# Altium integrated library TE Passive Components.IntLib: 6 symbols
Pins are listed as number, name and electrical type; pins without a type are passive.

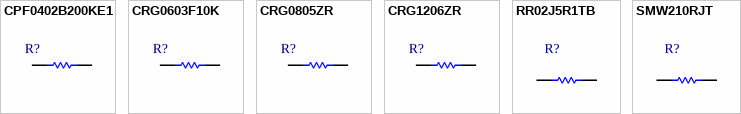
[diagram p0: symbols CPF0402B200KE1 to SMW210RJT]

## CPF0402B200KE1
designator R?
Chip Resistor, 200 KOhm, +/- 0.1%, 0.063 W, -55 to 155 degC, 0402 (1005 Metric), RoHS, Tape and Reel; Part # Aliases: 3-1879216-5; Power Rating: 63 mW; Temperature Coefficient: 25 PPM / C; Resistance: 200 kOhms; Unit Weight: 0.000023 oz; Brand: TE Connectivity / Neohm; Voltage Rating: 50 V; DatasheetVersion: Rev. BA; PackageReference: SMD; PackageDescription: 2-Pin Chip Resistor, Body 1 x 0.5 mm; Supplier 1: Newark; Supplier Part Number 1: 95W6171; Supplier 2: Newark; Supplier Part Number 2: 06AC1267; Supplier 3: Farnell; Supplier Part Number 3: 2330537; Supplier 4: Farnell; Supplier Part Number 4: 2615138; Supplier 5: Farnell; Supplier Part Number 5: 2330537RL; Supplier 6: Digi-Key; Supplier Part Number 6: A103795TR-ND; Supplier 7: Digi-Key; Supplier Part Number 7: A103795CT-ND; Supplier 8: Digi-Key; Supplier Part Number 8: A103795DKR-ND; Product: Precision Resistors Thin Film SMD; RoHS: True; Height: 0.3 mm; Package / Case: 0402 (1005 metric); Packaging: Reel; Product Category: Thin Film Resistors; Operating Temperature Range: - 55 C to + 155 C; Type: Thin Film Precision Resistors; Width: 0.5 mm; Factory Pack Quantity: 1000; Series: CPF; Length: 1 mm; Termination Style: SMD/SMT; Case Code - mm: 1005; Tolerance: 0.1 %; Case Code - in: 0402; ComponentLink1Description: Manufacturer URL; ComponentLink1URL: http://www.te.com; ComponentLink2Description: Datasheet; ComponentLink2URL: http://www.te.com/commerce/DocumentDelivery/DDEController?Action=showdoc&DocId=Customer+Drawing%7F1879216%7FBA%7Fpdf%7FEnglish%7FENG_CD_1879216_BA.pdf%7F3-1879216-5
footprint RESC1005X35X20LL05T10 (Chip Resistor, 2-Leads, Body 1.00x0.50mm, IPC High Density)
footprint RESC1005X35X20ML05T10 (Chip Resistor, 2-Leads, Body 1.00x0.50mm, IPC Low Density)
footprint RESC1005X35X20NL05T10 (Chip Resistor, 2-Leads, Body 1.00x0.50mm, IPC Medium Density)
pins: 1, 2

## CRG0603F10K
designator R?
Chip Resistor, 10 KOhm, +/- 1%, 0.1 W, -55 to 125 degC, 0603 (1608 Metric), RoHS, Tape and Reel; Case Style: Moulded; Temperature Coefficient: ±100ppm/°C; Power Rating: 0.1W; Resistance: 10 kΩ; Maximum Temperature Coefficient: +100ppm/°C; Minimum Temperature Coefficient: -100ppm/°C; DatasheetVersion: Rev. BA; PackageReference: SMD; PackageDescription: 2-Pin Surface Mount Device, Body 1.6 x 0.8 mm; Supplier 1: Newark; Supplier Part Number 1: 35AC0818; Supplier 2: Digi-Key; Supplier Part Number 2: A106048TR-ND; Supplier 3: Digi-Key; Supplier Part Number 3: A106048CT-ND; Supplier 4: Digi-Key; Supplier Part Number 4: A106048DKR-ND; Technology: Thick Film; Length: 1.6mm; Height: 0.45mm; Dimensions: 1.6 x 0.8 x 0.45mm; Minimum Operating Temperature: -55°C; Series: CRG0603; Package/Case: 0603; Depth: 0.8mm; Tolerance: ±1%; Maximum Operating Temperature: +125°C; Mounting Technology: Surface Mount; ComponentLink1Description: Manufacturer URL; ComponentLink1URL: http://www.te.com; ComponentLink2Description: Datasheet; ComponentLink2URL: http://www.te.com/commerce/DocumentDelivery/DDEController?Action=showdoc&DocId=Customer+Drawing%7F1622829%7FBA%7Fpdf%7FEnglish%7FENG_CD_1622829_BA.pdf%7F1622829-1
footprint RESC1608X55X30LL10T20_B (Chip Resistor, 2-Leads, Body 1.7x0.95mm, IPC High Density)
footprint RESC1608X55X30ML10T20_B (Chip Resistor, 2-Leads, Body 1.7x0.95mm, IPC Low Density)
footprint RESC1608X55X30NL10T20_B (Chip Resistor, 2-Leads, Body 1.7x0.95mm, IPC Medium Density)
pins: 1, 2

## CRG0805ZR
designator R?
Chip Resistor, 0 Ohm, 0.125 W, -55 to 125 degC, 0805 (2012 Metric), RoHS, Tape and Reel; Part # Aliases: 1623401-1; Brand: TE Connectivity / Neohm; Unit Weight: 0.000194 oz; Resistance: 0 Ohms; DatasheetVersion: Rev. BA; PackageReference: SMD; PackageDescription: 2-Pin Surface Mount Device, Body 2 x 1.25 mm; Supplier 1: Newark; Supplier Part Number 1: 45P3014; Supplier 2: Digi-Key; Supplier Part Number 2: A106066TR-ND; Supplier 3: Digi-Key; Supplier Part Number 3: A106066CT-ND; Supplier 4: Digi-Key; Supplier Part Number 4: A106066DKR-ND; Product Category: Thick Film Resistors; Height: 0.55 mm; Length: 2 mm; Operating Temperature Range: - 55 C to + 125 C; Packaging: Reel; Product: Thick Film Resistors Zero-Ohm; Case Code - mm: 2012; Factory Pack Quantity: 5000; RoHS: True; Series: CRG; Case Code - in: 0805; Type: Thick Film Chip Resistors; Termination Style: SMD/SMT; Package / Case: 0805 (2012 metric); Width: 1.25 mm; ComponentLink1Description: Manufacturer URL; ComponentLink1URL: http://www.te.com; ComponentLink2Description: Datasheet; ComponentLink2URL: www.te.com/commerce/DocumentDelivery/DDEController?Action=showdoc&DocId=Customer+Drawing%7F1623401%7FBA%7Fpdf%7FEnglish%7FENG_CD_1623401_BA.pdf%7F1623401-1
footprint RESC2013X65X40LL15T20 (Chip Resistor, 2-Leads, Body 2.00x1.3 mm, IPC High Density)
footprint RESC2013X65X40ML15T20 (Chip Resistor, 2-Leads, Body 2.00x1.3 mm, IPC Low Density)
footprint RESC2013X65X40NL15T20 (Chip Resistor, 2-Leads, Body 2.00x1.3 mm, IPC Medium Density)
pins: 1, 2

## CRG1206ZR
designator R?
Chip Resistor, 0 Ohm, +/- 0%, 0.25 W, -55 to 155 degC, 1206 (3216 Metric), RoHS, Tape and Reel; Part # Aliases: 1623693-1; Brand: TE Connectivity / Neohm; Unit Weight: 0.000571 oz; Resistance: 0 Ohms; DatasheetVersion: Rev. BA; PackageReference: SMD; PackageDescription: 2-Pin Chip Resistor, Body 3.1 x 1.55 mm; Supplier 1: Newark; Supplier Part Number 1: 46M3833; Supplier 2: Digi-Key; Supplier Part Number 2: A106079TR-ND; Supplier 3: Digi-Key; Supplier Part Number 3: A106079CT-ND; Supplier 4: Digi-Key; Supplier Part Number 4: A106079DKR-ND; Product Category: Thick Film Resistors; Height: 0.55 mm; Length: 3.1 mm; Operating Temperature Range: - 55 C to + 125 C; Packaging: Reel; Product: Thick Film Resistors Zero-Ohm; Case Code - mm: 3216; Factory Pack Quantity: 5000; RoHS: True; Series: CRG; Case Code - in: 1206; Type: Thick Film Chip Resistors; Termination Style: SMD/SMT; Package / Case: 1206 (3216 metric); Width: 1.55 mm; ComponentLink1Description: Manufacturer URL; ComponentLink1URL: http://www.te.com; ComponentLink2Description: Datasheet; ComponentLink2URL: http://www.te.com/commerce/DocumentDelivery/DDEController?Action=showdoc&DocId=Customer+Drawing%7F1623693%7FBA%7Fpdf%7FEnglish%7FENG_CD_1623693_BA.pdf%7F1623693-1
footprint RESC3116X65X45LL15T20 (Chip Resistor, 2-Leads, Body 3.25x1.7mm, IPC High Density)
footprint RESC3116X65X45ML15T20 (Chip Resistor, 2-Leads, Body 3.25x1.7mm, IPC Low Density)
footprint RESC3116X65X45NL15T20 (Chip Resistor, 2-Leads, Body 3.25x1.7mm, IPC Medium Density)
pins: 1, 2

## RR02J5R1TB
designator R?
Power Resistor, 5.1 Ohm +/- 5%, 2 W, 2-Pin THD, Dia 3.5 mm, Body Length 9 mm, RoHS, Ammo Pack; Part # Aliases: 3-1879352-0; Brand: TE Connectivity / Neohm; Temperature Coefficient: 300 PPM / C; Power Rating: 2 W; Resistance: 5.1 Ohms; PackageReference: THD; Supplier 1: Digi-Key; Supplier Part Number 1: RR02J5R1TB-ND; Product Category: Metal Film Resistors; Length: 9 mm; Packaging: Bulk; Operating Temperature Range: - 55 to + 155 C; Factory Pack Quantity: 1000; Diameter: 3.5 mm; Series: RR; Termination Style: Axial; Tolerance: 5 %; Mounting Technology: Through Hole; ComponentLink1Description: Manufacturer URL; ComponentLink1URL: http://www.te.com; ComponentLink2Description: Datasheet; ComponentLink2URL: http://www.te.com/commerce/DocumentDelivery/DDEController?Action=showdoc&DocId=Data+Sheet%7F3-1773449-2%7FE%7Fpdf%7FEnglish%7FENG_DS_3-1773449-2_E.pdf%7F3-1879352-0
footprint TECO-RR02-2_V (THD, 2-Leads, Dia 3.5mm, Body Length 9mm, Pin Spacing 3mm)
pins: 1, 2

## SMW210RJT
designator R?
Moulded Power Resistor, 2 W, 10 Ohm +/- 5%, 2-Pin 6.7 x 4 x 3.85 mm SMD, RoHS, Tape and Reel; SVHC: No SVHC (15-Jun-2015); Temperature Coefficient: ± 200ppm/°C; Resistor Element Type: Wirewound; Product Range: SMW Series; Power Rating: 2W; Resistance: 10ohm; Voltage Rating: 300V; Resistor Case Style: 2616 [6740 Metric]; PackageReference: SMD; Supplier 1: Newark; Supplier Part Number 1: 12AC2450; Supplier 2: Newark; Supplier Part Number 2: 98K0123; Supplier 3: Farnell; Supplier Part Number 3: 1086288; Supplier 4: Farnell; Supplier Part Number 4: 2692018; Supplier 5: Farnell; Supplier Part Number 5: 1086288RL; Supplier 6: Digi-Key; Supplier Part Number 6: A103585TR-ND; Supplier 7: Digi-Key; Supplier Part Number 7: A103585CT-ND; Supplier 8: Digi-Key; Supplier Part Number 8: A103585DKR-ND; Packaging: Cut Tape; Resistance Tolerance: ± 5%; Mounting Technology: Surface Mount; ComponentLink1Description: Manufacturer URL; ComponentLink1URL: http://www.te.com; ComponentLink2Description: Datasheet; ComponentLink2URL: http://www.te.com/commerce/DocumentDelivery/DDEController?Action=showdoc&DocId=Data+Sheet%7F1773242%7FE%7Fpdf%7FEnglish%7FENG_DS_1773242_E.pdf%7F4-1676966-9
footprint TECO-SMW2-2_V (SMD, 2-Leads, Body 6.7x4mm, Height 3.85mm)
pins: 1, 2